# Altium footprint library contador_geiger.PcbLib: 19 footprints (part 1 of 2)
Each footprint in its own frame and in the unit in brackets; x right, y up, seen from the top. Pads: shape width x height; smd on the part's side, far side on the other; paste and mask are expansions set on the pad; w line width, h text height; cw(c..) or ccw(c..) is an arc to the next point about the centre after c.
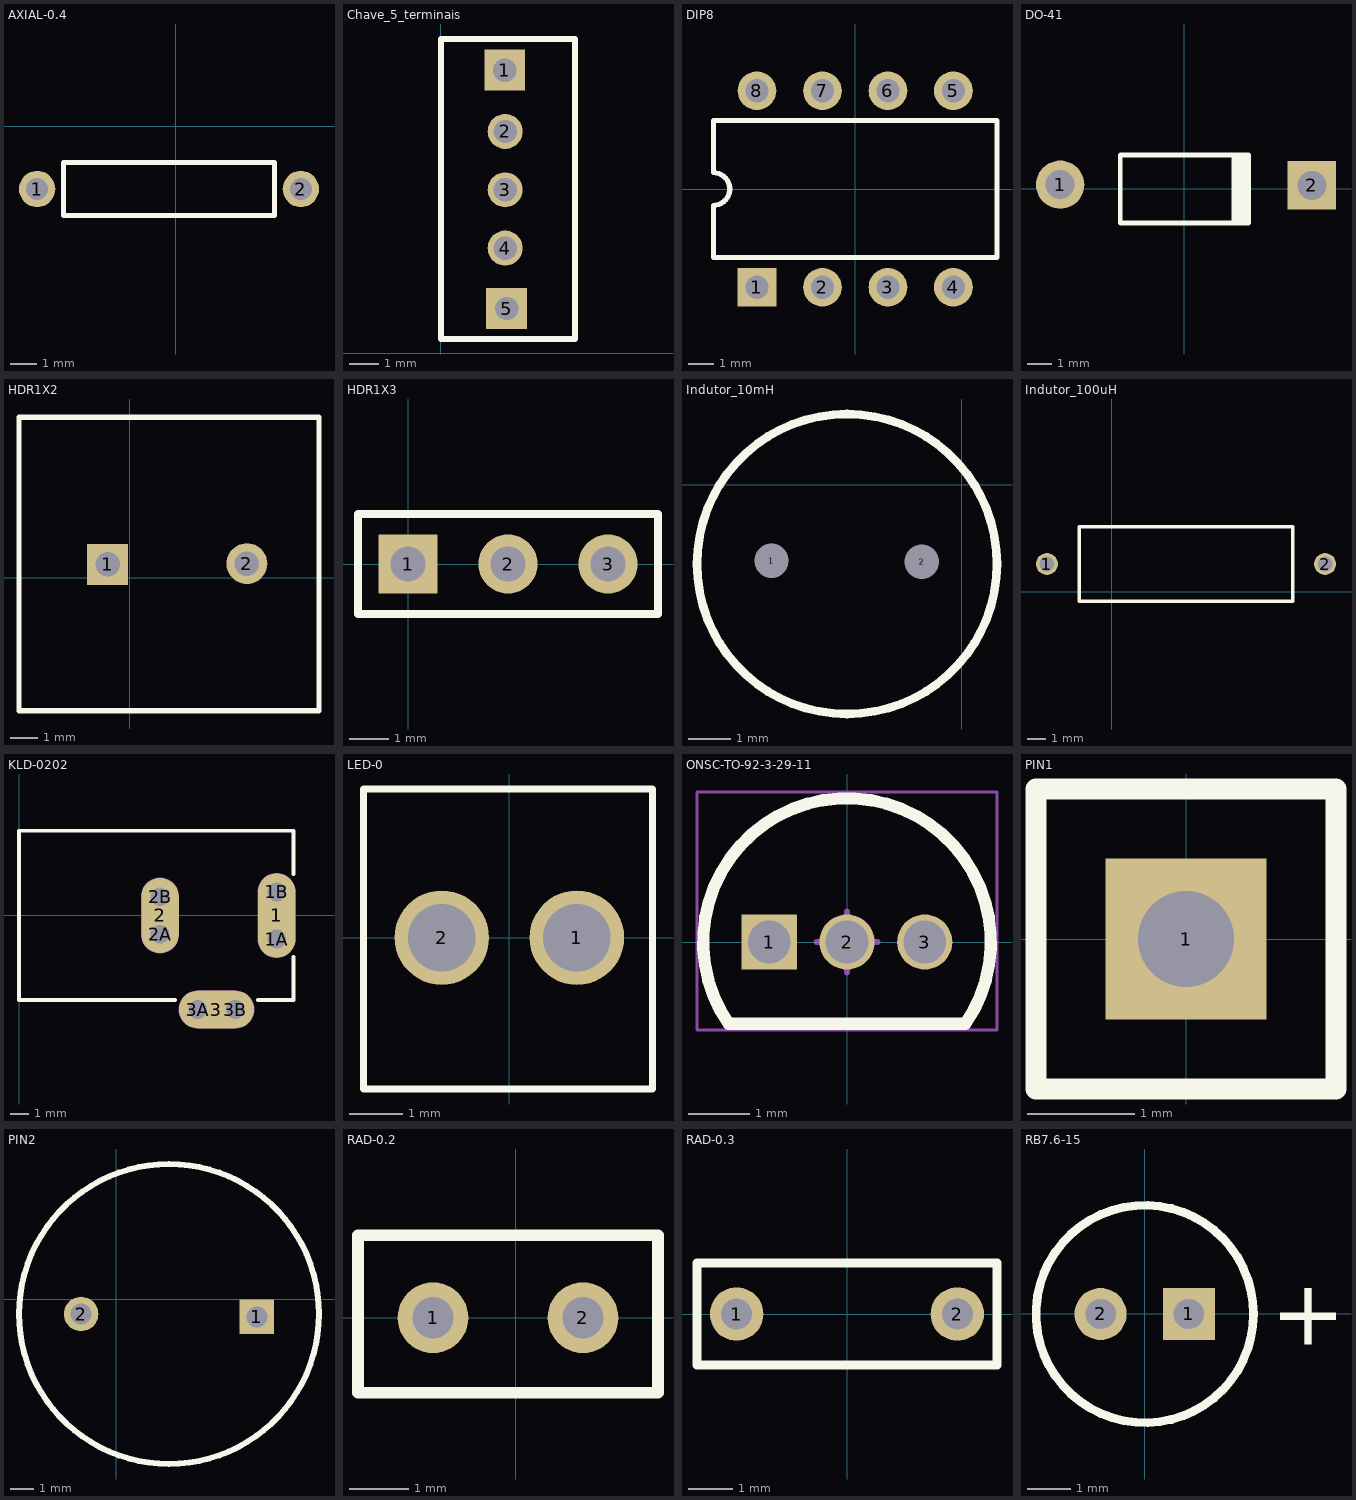
[diagram p0: the footprints below, top view; thin cyan lines are the x and y axes]

## AXIAL-0.4 [mm] "Axial Device, Thru-Hole; 2 Leads; 0.4 in Pin Spacing"
height 2.032
pads (2):
  round 1.4 hole 0.85: 1(-5.334,-2.413) 2(4.826,-2.413)
Top Overlay:
  lines w0.2: -4.318,-3.429 -4.318,-1.397 3.81,-1.397 3.81,-3.429 -4.318,-3.429
3D body "Resistor TH horizontal 10,16.stp": height 2.51, standoff -2, extent -5.507,-3.571 5.001,-1.255

## Chave_5_terminais [mm]
pads (5):
  rect 1.4x1.4 hole 0.8: 1(2.184,9.703) 5(2.251,1.526)
  round 1.2 hole 0.8: 2(2.2,7.6) 3(2.2,5.6) 4(2.2,3.6)
Top Overlay:
  lines w0.2: 0,0.483 0,10.77 4.597,10.77 4.597,0.483 0,0.483
3D body "Chave_5_Terminais.stp": height 5.48, standoff -2.12, extent 0.051,1.263 8.451,9.863

## DIP8 [mm] "DIP; 8 Leads; Row Spacing 7.62 mm; Pitch 2.54 mm"
height 5.08
pads (8):
  rect 1.5x1.5 hole 0.9: 1(-3.81,-3.81)
  round 1.5 hole 0.9: 2(-1.27,-3.81) 3(1.27,-3.81) 4(3.81,-3.81) 5(3.81,3.81) 6(1.27,3.81) 7(-1.27,3.81) 8(-3.81,3.81)
Top Overlay:
  lines w0.2: -5.5,-2.65 -5.5,-0.635 ccw(c-5.5,0) -5.5,0.635 -5.5,2.65 5.5,2.65 5.5,-2.65 -5.5,-2.65
3D body "DIP300-skt-flat-8.stp": height 7.13, standoff -0.72, extent -5.207,-5 5.153,5

## DO-41 [mm] "Diode, Axial; Body 5.2 x 2.7 mm (LxDia. max), Lead Dia. 0.86 mm (max)"
height 2.8
pads (2):
  round 2 hole 1.2: 1(-5.131,0.178)
  rect 2x2 hole 1.2: 2(5.258,0.152)
Top Overlay:
  rectangle: 1.95,-1.4 2.75,1.4
  lines w0.2: 2.65,-1.4 -2.65,-1.4 -2.65,1.4 2.65,1.4
3D body "Diode.STEP": height 1, standoff -3, extent -5.509,-0.857 5.661,1.143

## HDR1X2 [mm] "Connector; Header; 2 Position"
pads (2):
  rect 1.5x1.5 hole 0.9: 1(-0.813,0.483)
  round 1.5 hole 0.9: 2(4.293,0.508)
Top Overlay:
  lines w0.2: -4.064,-4.877 6.934,-4.877 6.934,5.867 -4.064,5.867 -4.064,-4.877
3D body "User Library-TER-KF128-2P.step": height 14.85, standoff -4.45, extent -3.932,-4.76 6.828,5.74

## HDR1X3 [mm] "Connector; Header; 3 Position"
pads (3):
  rect 1.5x1.5 hole 0.9: 1(0,0)
  round 1.5 hole 0.9: 2(2.54,0) 3(5.08,0)
Top Overlay:
  lines w0.2: -1.27,-1.27 -1.27,1.27 6.35,1.27 6.35,-1.27 -1.27,-1.27
3D body "DS1021-1x3S61.stp": height 8.6, standoff -3, extent -1.27,-1.27 6.35,1.27

## Indutor_10mH [mil]
pads (2):
  round 10 hole 31.5: 1(-175,-70) 2(-37,-71)
Top Overlay:
  circle w7.87: c-105.63,-73 r137.8
3D body "IND_BOURNS_RLB0812.step": height 432.99, standoff -177.99, extent -247.99,-211.87 36.02,71.88

## Indutor_100uH [mm]
pads (2):
  round 1.2 hole 0.8: 1(-3.556,1.524) 2(11.684,1.524)
Top Overlay:
  lines w0.2: -1.778,-0.508 9.906,-0.508 9.906,3.556 -1.778,3.556 -1.778,-0.508
3D body "User Library-Indutor 100uH-370mA-600mil.step": height 3.5, standoff -2, extent -3.906,-0.31 12.034,3.358

## KLD-0202 [mm] "DC Power Jack, 2.5mm, KLD Series, PCB Mount"
pads (9):
  oval 2x4.5 all layers, no hole: 1(13.7,0)
  round 1.5 hole 1: 1A(13.7,-1.25) 1B(13.7,1.25) 2A(7.5,-1) 2B(7.5,1) 3A(9.5,-5) 3B(11.5,-5)
  oval 2x4 all layers, no hole: 2(7.5,0)
  oval 4x2 all layers, no hole: 3(10.5,-5)
Top Overlay:
  lines w0.2: 8.3,-4.5 0,-4.5 0,4.5 14.6,4.5 14.6,2.2 ; 12.7,-4.5 14.6,-4.5 14.6,-2.2
Mechanical 1:
  lines w1: 7.5,-1 7.5,1 ; 9.5,-5 11.5,-5 ; 13.7,-1.25 13.7,1.25
Mechanical 2:
  lines w2.016: 7.5,-1 7.5,1 ; 9.5,-5 11.5,-5 ; 13.7,-1.25 13.7,1.25
3D body "DC Jack.STEP": height 13.12, standoff -1.38, extent 0.254,-4.637 14.264,4.373

## LED-0 [mil] "LED; 2 Leads"
pads (2):
  round 70 hole 50: 1(50,0) 2(-50,0)
Top Overlay:
  lines w5: -108,-112 -108,110 -75,110 75,110 106,110 106,-112 -108,-112
3D body "5mm LED RED.SLDPRT": height 338.58, standoff -196.85, extent -100.27,-104.39 100.26,96.4

## ONSC-TO-92-3-29-11 [mm] "TO, 3-Leads, Body Dia 4.7mm, Pitch 1.27mm"
height 7.87
pads (3):
  rect 0.9x0.9 hole 0.7: 1(-1.27,0)
  round 0.9 hole 0.7: 2(0,0) 3(1.27,0)
Top Overlay:
  lines w0.2: -1.934,-1.335 cw(c0,0) 1.934,-1.335 -1.934,-1.335
Mechanical 13:
  lines w0.1: -1.934,-1.335 cw(c0,0) 1.934,-1.335 -1.934,-1.335
Mechanical 15:
  lines w0.05: -2.45,-1.435 2.45,-1.435 2.45,2.45 -2.45,2.45 -2.45,-1.435
  lines w0.1: -0.5,0 0.5,0 ; 0,-0.5 0,0.5
3D body "User Library-TO-92-7.step": height 10.5, standoff -2, extent -2.525,-1.381 2.475,2.489

## PIN1 [mm] "Connector; Plug"
pads (1):
  rect 1.5x1.5 hole 0.9: 1(0,0)
Top Overlay:
  lines w0.2: -1.4,-1.4 -1.4,1.4 1.4,1.4 1.4,-1.4 -1.4,-1.4

## PIN2 [mm] "Photosensitive Diode; 2 Leads"
pads (2):
  rect 1.5x1.5 hole 0.9: 1(6.096,-0.762)
  round 1.5 hole 0.9: 2(-1.524,-0.635)
Top Overlay:
  circle w0.254: c2.286,-0.635 r6.5
3D body "Buzzer.step": height 11.5, standoff -3.5, extent -3.714,-6.754 8.286,5.246

## RAD-0.2 [mm] "Radial Cap, Thru-Hole; 2 Leads; 0.2 in Pin Spacing"
pads (2):
  round 1.2 hole 0.7: 1(-1.397,0) 2(1.143,0)
Top Overlay:
  lines w0.2: -2.667,-1.27 2.413,-1.27 2.413,1.397 -2.667,1.397 -2.667,-1.27
3D body "DS1021-1x2SF11.stp": height 8.6, standoff -3, extent -2.667,-1.27 2.413,1.27

## RAD-0.3 [mm] "Radial Cap, Thru-Hole; 2 Leads; 0.3 in Pin Spacing"
height 6
pads (2):
  round 1.2 hole 0.7: 1(-2.476,0) 2(2.476,0)
Top Overlay:
  lines w0.2: -3.365,-1.143 3.365,-1.143 3.365,1.143 -3.365,1.143 -3.365,-1.143
3D body "User Library-Ceramic Disc Capacitor 0_2in pitch.step": height 7.82, standoff -0.68, extent -3.525,-0.848 3.475,0.848

## RB7.6-15 [mm] "Polarized Capacitor (Radial); 2 Leads"
pads (2):
  rect 1.2x1.2 hole 0.7: 1(1.016,0)
  round 1.2 hole 0.7: 2(-1.016,0)
Top Overlay:
  circle w0.2: c0,0 r2.5
  text "+" at 2.896,-0.711 h1.5
3D body "CAP_RAD_D5x11_POL_BK.stp": height 12.5, standoff -2.5, extent -2.75,-2.75 2.75,2.75